# Altium integrated library Micron Memory Dynamic RAM.IntLib: 40 symbols (part 2 of 3)
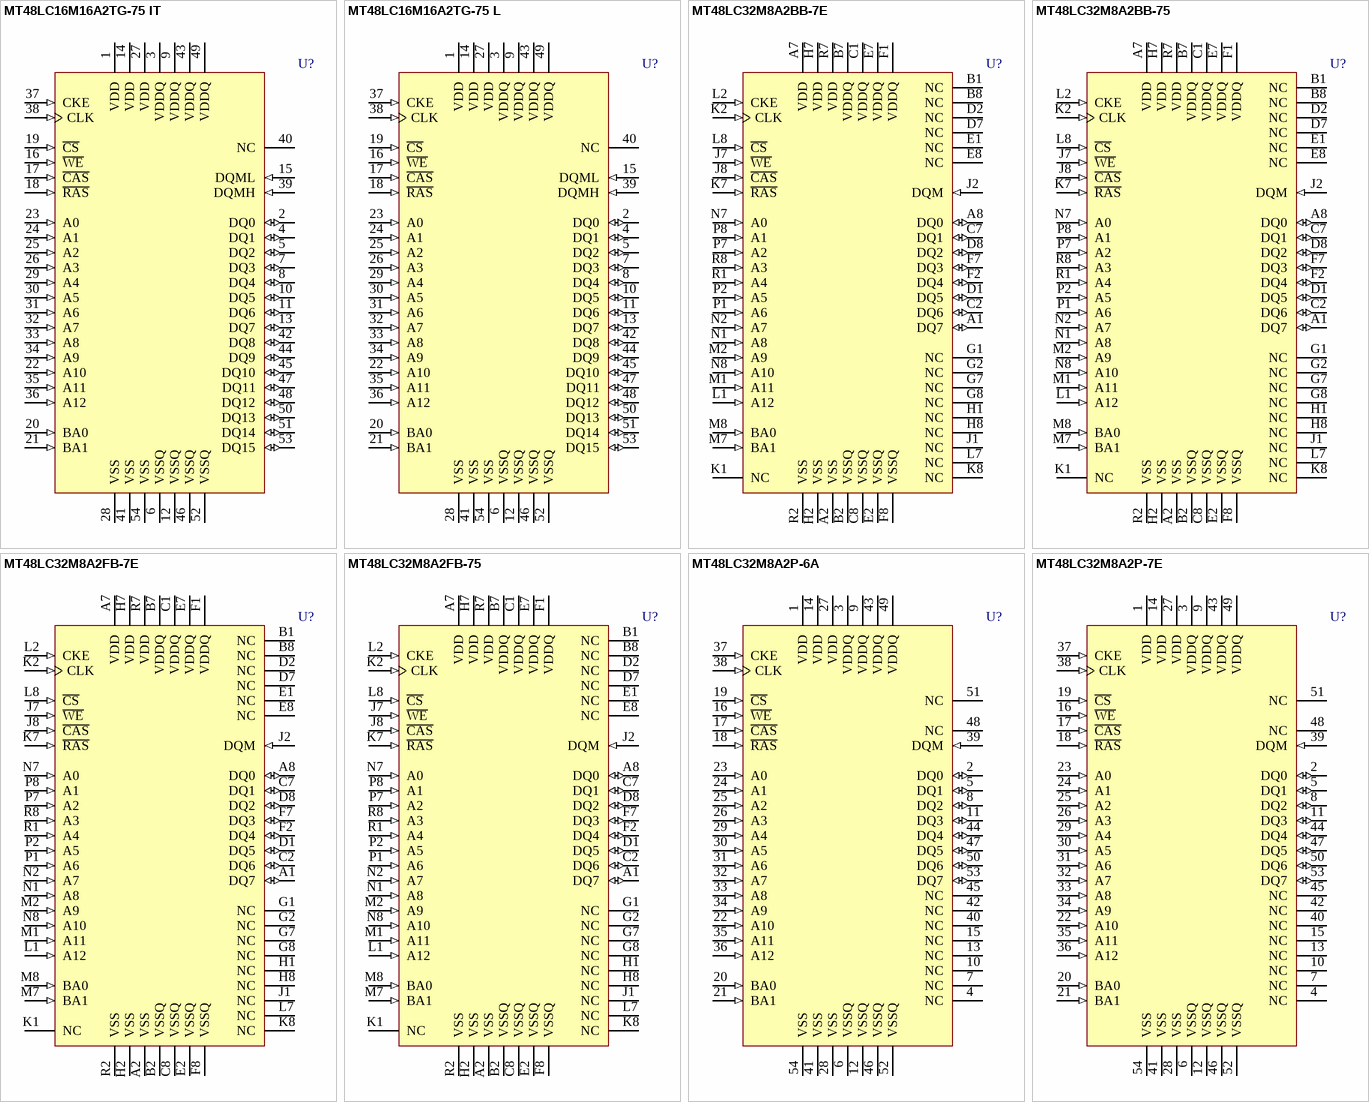
[diagram p5: symbols MT48LC16M16A2TG-75 IT to MT48LC32M8A2P-7E]

## MT48LC32M8A2BB-7E
designator U?
256Mb Synchronous High-Speed CMOS DRAM, 32Mb x 8Bit x 4 Banks,  60-Ball FPGA Pb-free, Commercial; CycleTime: 7.5ns @ CL = 2 (PC133); RowAddress: 8K (A0-A12); ColumnAddress: 1K (A0-A9); PCB_Layout: Manufacturer recommends pad size of 0.33mm ± 0.025mm.; Published: 11-Oct-2004; LatestRevisionDate: 13-Apr-2006; LatestRevisionNote: IPC-7351 Footprint Added.; DatasheetVersion: RevL, Oct-2007; PackageVersion: Sep-2003; PackageReference: FB; Publisher: Altium Limited; PackageDescription: 60-Ball Ball Grid Array Rectangular 0.8 mm Pitch (FB); ComponentLink1Description: Manufacturer Link; ComponentLink1URL: http://www.micron.com; ComponentLink2Description: Datasheet; ComponentLink2URL: http://download.micron.com/pdf/datasheets/dram/sdram/256MSDRAM.pdf
footprint FB (BGA, 60-Leads, Body 16x8mm, Pitch 0.8mm)
pins: A1 DQ7 (io) "Data Input/Output 7", A2 VSS (power) "Ground", A7 VDD (power) "Power Supply", A8 DQ0 (io) "Data Input/Output 0", B1 NC "No Connect", B2 VSSQ (power) "DQ Ground", B7 VDDQ (power) "DQ Power", B8 NC "No Connect", C1 VDDQ (power) "DQ Power", C2 DQ6 (io) "Data Input/Output 6", C7 DQ1 (io) "Data Input/Output 1", C8 VSSQ (power) "DQ Ground", D1 DQ5 (io) "Data Input/Output 5", D2 NC "No Connect", D7 NC "No Connect", D8 DQ2 (io) "Data Input/Output 2", E1 NC "No Connect", E2 VSSQ (power) "DQ Ground", E7 VDDQ (power) "DQ Power", E8 NC "No Connect", F1 VDDQ (power) "DQ Power", F2 DQ4 (io) "Data Input/Output 4", F7 DQ3 (io) "Data Input/Output 3", F8 VSSQ (power) "DQ Ground", G1 NC "No Connect", G2 NC "No Connect", G7 NC "No Connect", G8 NC "No Connect", H1 NC "No Connect", H2 VSS (power) "Ground", H7 VDD (power) "Power Supply", H8 NC "No Connect", J1 NC "No Connect", J2 DQM (in) "Input/Output Mask", J7 ~{WE} (in) "Command Input", J8 ~{CAS} (in) "Command Input", K1 NC "No Connect", K2 CLK (in) "Clock", K7 ~{RAS} (in) "Command Input", K8 NC "No Connect", L1 A12 (in) "Address Input 12", L2 CKE (in) "Clock Enable", L7 NC "No Connect", L8 ~{CS} (in) "Chip Select", M1 A11 (in) "Address Input 11", M2 A9 (in) "Address Input 9", M7 BA1 (in) "Bank Address Input 1", M8 BA0 (in) "Bank Address Input 0", N1 A8 (in) "Address Input 8", N2 A7 (in) "Address Input 7", N7 A0 (in) "Address Input 0", N8 A10 (in) "Address Input 10", P1 A6 (in) "Address Input 6", P2 A5 (in) "Address Input 5", P7 A2 (in) "Address Input 2", P8 A1 (in) "Address Input 1", R1 A4 (in) "Address Input 4", R2 VSS (power) "Ground", R7 VDD (power) "Power Supply", R8 A3 (in) "Address Input 3"

## MT48LC32M8A2BB-75
designator U?
256Mb Synchronous High-Speed CMOS DRAM, 32Mb x 8Bit x 4 Banks,  60-Ball FPGA Pb-free, Commercial; CycleTime: 7.5ns @ CL = 3 (PC133); RowAddress: 8K (A0-A12); ColumnAddress: 1K (A0-A9); PCB_Layout: Manufacturer recommends pad size of 0.33mm ± 0.025mm.; Published: 11-Oct-2004; LatestRevisionDate: 13-Apr-2006; LatestRevisionNote: IPC-7351 Footprint Added.; DatasheetVersion: RevL, Oct-2007; PackageVersion: Sep-2003; PackageReference: FB; Publisher: Altium Limited; PackageDescription: 60-Ball Ball Grid Array Rectangular 0.8 mm Pitch (FB); ComponentLink1Description: Manufacturer Link; ComponentLink1URL: http://www.micron.com; ComponentLink2Description: Datasheet; ComponentLink2URL: http://download.micron.com/pdf/datasheets/dram/sdram/256MSDRAM.pdf
footprint FB (BGA, 60-Leads, Body 16x8mm, Pitch 0.8mm)
pins: A1 DQ7 (io) "Data Input/Output 7", A2 VSS (power) "Ground", A7 VDD (power) "Power Supply", A8 DQ0 (io) "Data Input/Output 0", B1 NC "No Connect", B2 VSSQ (power) "DQ Ground", B7 VDDQ (power) "DQ Power", B8 NC "No Connect", C1 VDDQ (power) "DQ Power", C2 DQ6 (io) "Data Input/Output 6", C7 DQ1 (io) "Data Input/Output 1", C8 VSSQ (power) "DQ Ground", D1 DQ5 (io) "Data Input/Output 5", D2 NC "No Connect", D7 NC "No Connect", D8 DQ2 (io) "Data Input/Output 2", E1 NC "No Connect", E2 VSSQ (power) "DQ Ground", E7 VDDQ (power) "DQ Power", E8 NC "No Connect", F1 VDDQ (power) "DQ Power", F2 DQ4 (io) "Data Input/Output 4", F7 DQ3 (io) "Data Input/Output 3", F8 VSSQ (power) "DQ Ground", G1 NC "No Connect", G2 NC "No Connect", G7 NC "No Connect", G8 NC "No Connect", H1 NC "No Connect", H2 VSS (power) "Ground", H7 VDD (power) "Power Supply", H8 NC "No Connect", J1 NC "No Connect", J2 DQM (in) "Input/Output Mask", J7 ~{WE} (in) "Command Input", J8 ~{CAS} (in) "Command Input", K1 NC "No Connect", K2 CLK (in) "Clock", K7 ~{RAS} (in) "Command Input", K8 NC "No Connect", L1 A12 (in) "Address Input 12", L2 CKE (in) "Clock Enable", L7 NC "No Connect", L8 ~{CS} (in) "Chip Select", M1 A11 (in) "Address Input 11", M2 A9 (in) "Address Input 9", M7 BA1 (in) "Bank Address Input 1", M8 BA0 (in) "Bank Address Input 0", N1 A8 (in) "Address Input 8", N2 A7 (in) "Address Input 7", N7 A0 (in) "Address Input 0", N8 A10 (in) "Address Input 10", P1 A6 (in) "Address Input 6", P2 A5 (in) "Address Input 5", P7 A2 (in) "Address Input 2", P8 A1 (in) "Address Input 1", R1 A4 (in) "Address Input 4", R2 VSS (power) "Ground", R7 VDD (power) "Power Supply", R8 A3 (in) "Address Input 3"

## MT48LC32M8A2FB-7E
designator U?
256Mb Synchronous High-Speed CMOS DRAM, 32Mb x 8Bit x 4 Banks,  60-Ball FPGA, Commercial; CycleTime: 7.5ns @ CL = 2 (PC133); RowAddress: 8K (A0-A12); ColumnAddress: 1K (A0-A9); PCB_Layout: Manufacturer recommends pad size of 0.33mm ± 0.025mm.; Published: 30-Oct-2002; LatestRevisionDate: 13-Apr-2006; LatestRevisionNote: IPC-7351 Footprint Added.; DatasheetVersion: RevL, Oct-2007; PackageVersion: Sep-2003; PackageReference: FB; Publisher: Altium Limited; PackageDescription: 60-Ball Ball Grid Array Rectangular 0.8 mm Pitch (FB); ComponentLink1Description: Manufacturer Link; ComponentLink1URL: http://www.micron.com; ComponentLink2Description: Datasheet; ComponentLink2URL: http://download.micron.com/pdf/datasheets/dram/sdram/256MSDRAM.pdf
footprint FB (BGA, 60-Leads, Body 16x8mm, Pitch 0.8mm)
pins: A1 DQ7 (io) "Data Input/Output 7", A2 VSS (power) "Ground", A7 VDD (power) "Power Supply", A8 DQ0 (io) "Data Input/Output 0", B1 NC "No Connect", B2 VSSQ (power) "DQ Ground", B7 VDDQ (power) "DQ Power", B8 NC "No Connect", C1 VDDQ (power) "DQ Power", C2 DQ6 (io) "Data Input/Output 6", C7 DQ1 (io) "Data Input/Output 1", C8 VSSQ (power) "DQ Ground", D1 DQ5 (io) "Data Input/Output 5", D2 NC "No Connect", D7 NC "No Connect", D8 DQ2 (io) "Data Input/Output 2", E1 NC "No Connect", E2 VSSQ (power) "DQ Ground", E7 VDDQ (power) "DQ Power", E8 NC "No Connect", F1 VDDQ (power) "DQ Power", F2 DQ4 (io) "Data Input/Output 4", F7 DQ3 (io) "Data Input/Output 3", F8 VSSQ (power) "DQ Ground", G1 NC "No Connect", G2 NC "No Connect", G7 NC "No Connect", G8 NC "No Connect", H1 NC "No Connect", H2 VSS (power) "Ground", H7 VDD (power) "Power Supply", H8 NC "No Connect", J1 NC "No Connect", J2 DQM (in) "Input/Output Mask", J7 ~{WE} (in) "Command Input", J8 ~{CAS} (in) "Command Input", K1 NC "No Connect", K2 CLK (in) "Clock", K7 ~{RAS} (in) "Command Input", K8 NC "No Connect", L1 A12 (in) "Address Input 12", L2 CKE (in) "Clock Enable", L7 NC "No Connect", L8 ~{CS} (in) "Chip Select", M1 A11 (in) "Address Input 11", M2 A9 (in) "Address Input 9", M7 BA1 (in) "Bank Address Input 1", M8 BA0 (in) "Bank Address Input 0", N1 A8 (in) "Address Input 8", N2 A7 (in) "Address Input 7", N7 A0 (in) "Address Input 0", N8 A10 (in) "Address Input 10", P1 A6 (in) "Address Input 6", P2 A5 (in) "Address Input 5", P7 A2 (in) "Address Input 2", P8 A1 (in) "Address Input 1", R1 A4 (in) "Address Input 4", R2 VSS (power) "Ground", R7 VDD (power) "Power Supply", R8 A3 (in) "Address Input 3"

## MT48LC32M8A2FB-75
designator U?
256Mb Synchronous High-Speed CMOS DRAM, 32Mb x 8Bit x 4 Banks,  60-Ball FPGA, Commercial; CycleTime: 7.5ns @ CL = 3 (PC133); RowAddress: 8K (A0-A12); ColumnAddress: 1K (A0-A9); PCB_Layout: Manufacturer recommends pad size of 0.33mm ± 0.025mm.; Published: 30-Oct-2002; LatestRevisionDate: 13-Apr-2006; LatestRevisionNote: IPC-7351 Footprint Added.; DatasheetVersion: RevL, Oct-2007; PackageVersion: Sep-2003; PackageReference: FB; Publisher: Altium Limited; PackageDescription: 60-Ball Ball Grid Array Rectangular 0.8 mm Pitch (FB); ComponentLink1Description: Manufacturer Link; ComponentLink1URL: http://www.micron.com; ComponentLink2Description: Datasheet; ComponentLink2URL: http://download.micron.com/pdf/datasheets/dram/sdram/256MSDRAM.pdf
footprint FB (BGA, 60-Leads, Body 16x8mm, Pitch 0.8mm)
pins: A1 DQ7 (io) "Data Input/Output 7", A2 VSS (power) "Ground", A7 VDD (power) "Power Supply", A8 DQ0 (io) "Data Input/Output 0", B1 NC "No Connect", B2 VSSQ (power) "DQ Ground", B7 VDDQ (power) "DQ Power", B8 NC "No Connect", C1 VDDQ (power) "DQ Power", C2 DQ6 (io) "Data Input/Output 6", C7 DQ1 (io) "Data Input/Output 1", C8 VSSQ (power) "DQ Ground", D1 DQ5 (io) "Data Input/Output 5", D2 NC "No Connect", D7 NC "No Connect", D8 DQ2 (io) "Data Input/Output 2", E1 NC "No Connect", E2 VSSQ (power) "DQ Ground", E7 VDDQ (power) "DQ Power", E8 NC "No Connect", F1 VDDQ (power) "DQ Power", F2 DQ4 (io) "Data Input/Output 4", F7 DQ3 (io) "Data Input/Output 3", F8 VSSQ (power) "DQ Ground", G1 NC "No Connect", G2 NC "No Connect", G7 NC "No Connect", G8 NC "No Connect", H1 NC "No Connect", H2 VSS (power) "Ground", H7 VDD (power) "Power Supply", H8 NC "No Connect", J1 NC "No Connect", J2 DQM (in) "Input/Output Mask", J7 ~{WE} (in) "Command Input", J8 ~{CAS} (in) "Command Input", K1 NC "No Connect", K2 CLK (in) "Clock", K7 ~{RAS} (in) "Command Input", K8 NC "No Connect", L1 A12 (in) "Address Input 12", L2 CKE (in) "Clock Enable", L7 NC "No Connect", L8 ~{CS} (in) "Chip Select", M1 A11 (in) "Address Input 11", M2 A9 (in) "Address Input 9", M7 BA1 (in) "Bank Address Input 1", M8 BA0 (in) "Bank Address Input 0", N1 A8 (in) "Address Input 8", N2 A7 (in) "Address Input 7", N7 A0 (in) "Address Input 0", N8 A10 (in) "Address Input 10", P1 A6 (in) "Address Input 6", P2 A5 (in) "Address Input 5", P7 A2 (in) "Address Input 2", P8 A1 (in) "Address Input 1", R1 A4 (in) "Address Input 4", R2 VSS (power) "Ground", R7 VDD (power) "Power Supply", R8 A3 (in) "Address Input 3"

## MT48LC32M8A2P-6A
designator U?
256Mb Synchronous High-Speed CMOS DRAM, 32Mb x 8Bit x 4 Banks, 54-Pin TSOP Pb-free, Commercial; CycleTime: 6.0ns @ CL = 3; RowAddress: 8K (A0-A12); ColumnAddress: 1K (A0-A9); Published: 11-Oct-2004; LatestRevisionDate: 13-Apr-2006; LatestRevisionNote: IPC-7351 Footprint Added.; DatasheetVersion: RevL, Oct-2007; PackageVersion: Sep-2003; PackageReference: TSOP2-54; Publisher: Altium Limited; PackageDescription: 54-Pin Plastic Small Outline Package 0.8 mm Pitch; Code_JEDEC: MS-024-FA; ComponentLink1Description: Manufacturer Link; ComponentLink1URL: http://www.micron.com; ComponentLink2Description: Datasheet; ComponentLink2URL: http://download.micron.com/pdf/datasheets/dram/sdram/256MSDRAM.pdf
footprint TSOP2-54_N (SOP, 54-Leads, Body 22.2x10.16mm, Pitch 0.8mm, IPC Medium Density)
footprint TSOP2-54_L (SOP, 54-Leads, Body 22.2x10.16mm, Pitch 0.8mm, IPC High Density)
footprint TSOP2-54_M (SOP, 54-Leads, Body 22.2x10.16mm, Pitch 0.8mm, IPC Low Density)
pins: 1 VDD (power) "Power Supply", 2 DQ0 (io) "Data Input/Output 0", 3 VDDQ (power) "DQ Power", 4 NC "No Connect", 5 DQ1 (io) "Data Input/Output 1", 6 VSSQ (power) "DQ Ground", 7 NC "No Connect", 8 DQ2 (io) "Data Input/Output 2", 9 VDDQ (power) "DQ Power", 10 NC "No Connect", 11 DQ3 (io) "Data Input/Output 3", 12 VSSQ (power) "DQ Ground", 13 NC "No Connect", 14 VDD (power) "Power Supply", 15 NC "No Connect", 16 ~{WE} (in) "Command Input", 17 ~{CAS} (in) "Command Input", 18 ~{RAS} (in) "Command Input", 19 ~{CS} (in) "Chip Select", 20 BA0 (in) "Bank Address Input 0", 21 BA1 (in) "Bank Address Input 1", 22 A10 (in) "Address Input 10", 23 A0 (in) "Address Input 0", 24 A1 (in) "Address Input 1", 25 A2 (in) "Address Input 2", 26 A3 (in) "Address Input 3", 27 VDD (power) "Power Supply", 28 VSS (power) "Ground", 29 A4 (in) "Address Input 4", 30 A5 (in) "Address Input 5", 31 A6 (in) "Address Input 6", 32 A7 (in) "Address Input 7", 33 A8 (in) "Address Input 8", 34 A9 (in) "Address Input 9", 35 A11 (in) "Address Input 11", 36 A12 (in) "Address Input 12", 37 CKE (in) "Clock Enable", 38 CLK (in) "Clock", 39 DQM (in) "Input/Output Mask", 40 NC "No Connect", 41 VSS (power) "Ground", 42 NC "No Connect", 43 VDDQ (power) "DQ Power", 44 DQ4 (io) "Data Input/Output 4", 45 NC "No Connect", 46 VSSQ (power) "DQ Ground", 47 DQ5 (io) "Data Input/Output 5", 48 NC "No Connect", 49 VDDQ (power) "DQ Power", 50 DQ6 (io) "Data Input/Output 6", 51 NC "No Connect", 52 VSSQ (power) "DQ Ground", 53 DQ7 (io) "Data Input/Output 7", 54 VSS (power) "Ground"

## MT48LC32M8A2P-7E
designator U?
256Mb Synchronous High-Speed CMOS DRAM, 32Mb x 8Bit x 4 Banks, 54-Pin TSOP Pb-free, Commercial; CycleTime: 7.5ns @ CL = 2 (PC133); RowAddress: 8K (A0-A12); ColumnAddress: 1K (A0-A9); Published: 11-Oct-2004; LatestRevisionDate: 13-Apr-2006; LatestRevisionNote: IPC-7351 Footprint Added.; DatasheetVersion: RevL, Oct-2007; PackageVersion: Sep-2003; PackageReference: TSOP2-54; Publisher: Altium Limited; PackageDescription: 54-Pin Plastic Small Outline Package 0.8 mm Pitch; Code_JEDEC: MS-024-FA; ComponentLink1Description: Manufacturer Link; ComponentLink1URL: http://www.micron.com; ComponentLink2Description: Datasheet; ComponentLink2URL: http://download.micron.com/pdf/datasheets/dram/sdram/256MSDRAM.pdf
footprint TSOP2-54_N (SOP, 54-Leads, Body 22.2x10.16mm, Pitch 0.8mm, IPC Medium Density)
footprint TSOP2-54_L (SOP, 54-Leads, Body 22.2x10.16mm, Pitch 0.8mm, IPC High Density)
footprint TSOP2-54_M (SOP, 54-Leads, Body 22.2x10.16mm, Pitch 0.8mm, IPC Low Density)
pins: 1 VDD (power) "Power Supply", 2 DQ0 (io) "Data Input/Output 0", 3 VDDQ (power) "DQ Power", 4 NC "No Connect", 5 DQ1 (io) "Data Input/Output 1", 6 VSSQ (power) "DQ Ground", 7 NC "No Connect", 8 DQ2 (io) "Data Input/Output 2", 9 VDDQ (power) "DQ Power", 10 NC "No Connect", 11 DQ3 (io) "Data Input/Output 3", 12 VSSQ (power) "DQ Ground", 13 NC "No Connect", 14 VDD (power) "Power Supply", 15 NC "No Connect", 16 ~{WE} (in) "Command Input", 17 ~{CAS} (in) "Command Input", 18 ~{RAS} (in) "Command Input", 19 ~{CS} (in) "Chip Select", 20 BA0 (in) "Bank Address Input 0", 21 BA1 (in) "Bank Address Input 1", 22 A10 (in) "Address Input 10", 23 A0 (in) "Address Input 0", 24 A1 (in) "Address Input 1", 25 A2 (in) "Address Input 2", 26 A3 (in) "Address Input 3", 27 VDD (power) "Power Supply", 28 VSS (power) "Ground", 29 A4 (in) "Address Input 4", 30 A5 (in) "Address Input 5", 31 A6 (in) "Address Input 6", 32 A7 (in) "Address Input 7", 33 A8 (in) "Address Input 8", 34 A9 (in) "Address Input 9", 35 A11 (in) "Address Input 11", 36 A12 (in) "Address Input 12", 37 CKE (in) "Clock Enable", 38 CLK (in) "Clock", 39 DQM (in) "Input/Output Mask", 40 NC "No Connect", 41 VSS (power) "Ground", 42 NC "No Connect", 43 VDDQ (power) "DQ Power", 44 DQ4 (io) "Data Input/Output 4", 45 NC "No Connect", 46 VSSQ (power) "DQ Ground", 47 DQ5 (io) "Data Input/Output 5", 48 NC "No Connect", 49 VDDQ (power) "DQ Power", 50 DQ6 (io) "Data Input/Output 6", 51 NC "No Connect", 52 VSSQ (power) "DQ Ground", 53 DQ7 (io) "Data Input/Output 7", 54 VSS (power) "Ground"

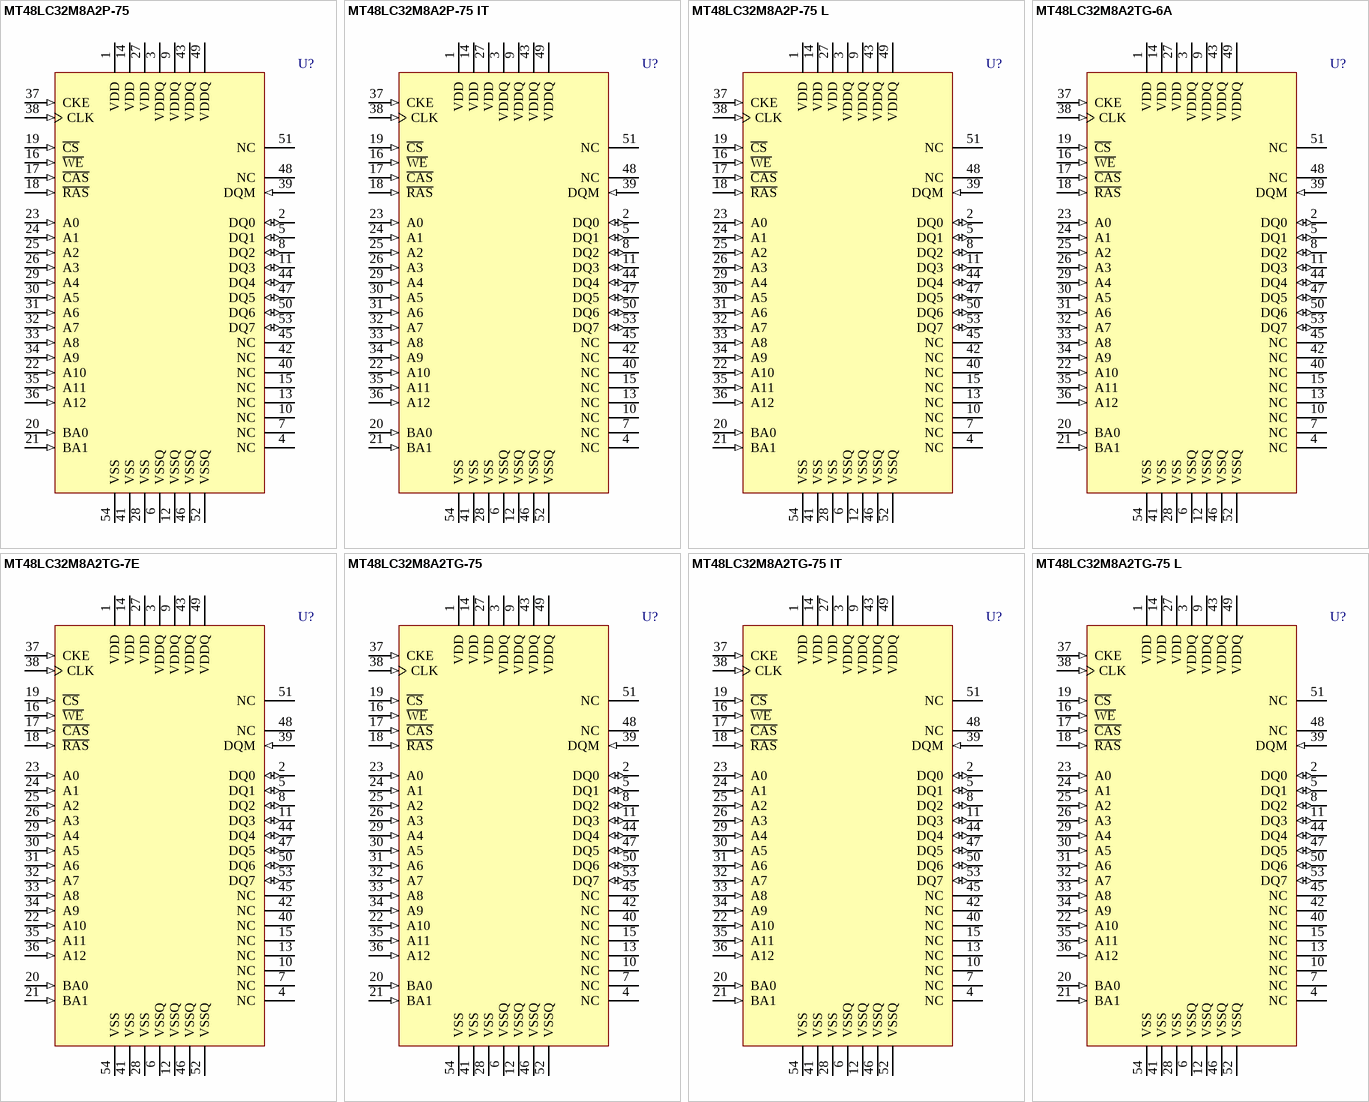
[diagram p3: symbols MT48LC32M8A2P-75 to MT48LC32M8A2TG-75 L]

## MT48LC32M8A2P-75
designator U?
256Mb Synchronous High-Speed CMOS DRAM, 32Mb x 8Bit x 4 Banks, 54-Pin TSOP Pb-free, Commercial; CycleTime: 7.5ns @ CL = 3 (PC133); RowAddress: 8K (A0-A12); ColumnAddress: 1K (A0-A9); Published: 11-Oct-2004; LatestRevisionDate: 13-Apr-2006; LatestRevisionNote: IPC-7351 Footprint Added.; DatasheetVersion: RevL, Oct-2007; PackageVersion: Sep-2003; PackageReference: TSOP2-54; Publisher: Altium Limited; PackageDescription: 54-Pin Plastic Small Outline Package 0.8 mm Pitch; Code_JEDEC: MS-024-FA; ComponentLink1Description: Manufacturer Link; ComponentLink1URL: http://www.micron.com; ComponentLink2Description: Datasheet; ComponentLink2URL: http://download.micron.com/pdf/datasheets/dram/sdram/256MSDRAM.pdf
footprint TSOP2-54_N (SOP, 54-Leads, Body 22.2x10.16mm, Pitch 0.8mm, IPC Medium Density)
footprint TSOP2-54_L (SOP, 54-Leads, Body 22.2x10.16mm, Pitch 0.8mm, IPC High Density)
footprint TSOP2-54_M (SOP, 54-Leads, Body 22.2x10.16mm, Pitch 0.8mm, IPC Low Density)
pins: 1 VDD (power) "Power Supply", 2 DQ0 (io) "Data Input/Output 0", 3 VDDQ (power) "DQ Power", 4 NC "No Connect", 5 DQ1 (io) "Data Input/Output 1", 6 VSSQ (power) "DQ Ground", 7 NC "No Connect", 8 DQ2 (io) "Data Input/Output 2", 9 VDDQ (power) "DQ Power", 10 NC "No Connect", 11 DQ3 (io) "Data Input/Output 3", 12 VSSQ (power) "DQ Ground", 13 NC "No Connect", 14 VDD (power) "Power Supply", 15 NC "No Connect", 16 ~{WE} (in) "Command Input", 17 ~{CAS} (in) "Command Input", 18 ~{RAS} (in) "Command Input", 19 ~{CS} (in) "Chip Select", 20 BA0 (in) "Bank Address Input 0", 21 BA1 (in) "Bank Address Input 1", 22 A10 (in) "Address Input 10", 23 A0 (in) "Address Input 0", 24 A1 (in) "Address Input 1", 25 A2 (in) "Address Input 2", 26 A3 (in) "Address Input 3", 27 VDD (power) "Power Supply", 28 VSS (power) "Ground", 29 A4 (in) "Address Input 4", 30 A5 (in) "Address Input 5", 31 A6 (in) "Address Input 6", 32 A7 (in) "Address Input 7", 33 A8 (in) "Address Input 8", 34 A9 (in) "Address Input 9", 35 A11 (in) "Address Input 11", 36 A12 (in) "Address Input 12", 37 CKE (in) "Clock Enable", 38 CLK (in) "Clock", 39 DQM (in) "Input/Output Mask", 40 NC "No Connect", 41 VSS (power) "Ground", 42 NC "No Connect", 43 VDDQ (power) "DQ Power", 44 DQ4 (io) "Data Input/Output 4", 45 NC "No Connect", 46 VSSQ (power) "DQ Ground", 47 DQ5 (io) "Data Input/Output 5", 48 NC "No Connect", 49 VDDQ (power) "DQ Power", 50 DQ6 (io) "Data Input/Output 6", 51 NC "No Connect", 52 VSSQ (power) "DQ Ground", 53 DQ7 (io) "Data Input/Output 7", 54 VSS (power) "Ground"

## MT48LC32M8A2P-75 IT
designator U?
256Mb Synchronous High-Speed CMOS DRAM, 32Mb x 8Bit x 4 Banks, 54-Pin TSOP Pb-free, Industrial; CycleTime: 7.5ns @ CL = 3 (PC133); RowAddress: 8K (A0-A12); ColumnAddress: 1K (A0-A9); Published: 11-Oct-2004; LatestRevisionDate: 13-Apr-2006; LatestRevisionNote: IPC-7351 Footprint Added.; DatasheetVersion: RevL, Oct-2007; PackageVersion: Sep-2003; PackageReference: TSOP2-54; Publisher: Altium Limited; PackageDescription: 54-Pin Plastic Small Outline Package 0.8 mm Pitch; Code_JEDEC: MS-024-FA; ComponentLink1Description: Manufacturer Link; ComponentLink1URL: http://www.micron.com; ComponentLink2Description: Datasheet; ComponentLink2URL: http://download.micron.com/pdf/datasheets/dram/sdram/256MSDRAM.pdf
footprint TSOP2-54_N (SOP, 54-Leads, Body 22.2x10.16mm, Pitch 0.8mm, IPC Medium Density)
footprint TSOP2-54_L (SOP, 54-Leads, Body 22.2x10.16mm, Pitch 0.8mm, IPC High Density)
footprint TSOP2-54_M (SOP, 54-Leads, Body 22.2x10.16mm, Pitch 0.8mm, IPC Low Density)
pins: 1 VDD (power) "Power Supply", 2 DQ0 (io) "Data Input/Output 0", 3 VDDQ (power) "DQ Power", 4 NC "No Connect", 5 DQ1 (io) "Data Input/Output 1", 6 VSSQ (power) "DQ Ground", 7 NC "No Connect", 8 DQ2 (io) "Data Input/Output 2", 9 VDDQ (power) "DQ Power", 10 NC "No Connect", 11 DQ3 (io) "Data Input/Output 3", 12 VSSQ (power) "DQ Ground", 13 NC "No Connect", 14 VDD (power) "Power Supply", 15 NC "No Connect", 16 ~{WE} (in) "Command Input", 17 ~{CAS} (in) "Command Input", 18 ~{RAS} (in) "Command Input", 19 ~{CS} (in) "Chip Select", 20 BA0 (in) "Bank Address Input 0", 21 BA1 (in) "Bank Address Input 1", 22 A10 (in) "Address Input 10", 23 A0 (in) "Address Input 0", 24 A1 (in) "Address Input 1", 25 A2 (in) "Address Input 2", 26 A3 (in) "Address Input 3", 27 VDD (power) "Power Supply", 28 VSS (power) "Ground", 29 A4 (in) "Address Input 4", 30 A5 (in) "Address Input 5", 31 A6 (in) "Address Input 6", 32 A7 (in) "Address Input 7", 33 A8 (in) "Address Input 8", 34 A9 (in) "Address Input 9", 35 A11 (in) "Address Input 11", 36 A12 (in) "Address Input 12", 37 CKE (in) "Clock Enable", 38 CLK (in) "Clock", 39 DQM (in) "Input/Output Mask", 40 NC "No Connect", 41 VSS (power) "Ground", 42 NC "No Connect", 43 VDDQ (power) "DQ Power", 44 DQ4 (io) "Data Input/Output 4", 45 NC "No Connect", 46 VSSQ (power) "DQ Ground", 47 DQ5 (io) "Data Input/Output 5", 48 NC "No Connect", 49 VDDQ (power) "DQ Power", 50 DQ6 (io) "Data Input/Output 6", 51 NC "No Connect", 52 VSSQ (power) "DQ Ground", 53 DQ7 (io) "Data Input/Output 7", 54 VSS (power) "Ground"

## MT48LC32M8A2P-75 L
designator U?
256Mb Synchronous High-Speed CMOS DRAM, 32Mb x 8Bit x 4 Banks, 54-Pin TSOP Pb-free, Commercial, Low Power; CycleTime: 7.5ns @ CL = 3 (PC133); RowAddress: 8K (A0-A12); ColumnAddress: 1K (A0-A9); Published: 11-Oct-2004; LatestRevisionDate: 13-Apr-2006; LatestRevisionNote: IPC-7351 Footprint Added.; DatasheetVersion: RevL, Oct-2007; PackageVersion: Sep-2003; PackageReference: TSOP2-54; Publisher: Altium Limited; PackageDescription: 54-Pin Plastic Small Outline Package 0.8 mm Pitch; Code_JEDEC: MS-024-FA; ComponentLink1Description: Manufacturer Link; ComponentLink1URL: http://www.micron.com; ComponentLink2Description: Datasheet; ComponentLink2URL: http://download.micron.com/pdf/datasheets/dram/sdram/256MSDRAM.pdf
footprint TSOP2-54_N (SOP, 54-Leads, Body 22.2x10.16mm, Pitch 0.8mm, IPC Medium Density)
footprint TSOP2-54_L (SOP, 54-Leads, Body 22.2x10.16mm, Pitch 0.8mm, IPC High Density)
footprint TSOP2-54_M (SOP, 54-Leads, Body 22.2x10.16mm, Pitch 0.8mm, IPC Low Density)
pins: 1 VDD (power) "Power Supply", 2 DQ0 (io) "Data Input/Output 0", 3 VDDQ (power) "DQ Power", 4 NC "No Connect", 5 DQ1 (io) "Data Input/Output 1", 6 VSSQ (power) "DQ Ground", 7 NC "No Connect", 8 DQ2 (io) "Data Input/Output 2", 9 VDDQ (power) "DQ Power", 10 NC "No Connect", 11 DQ3 (io) "Data Input/Output 3", 12 VSSQ (power) "DQ Ground", 13 NC "No Connect", 14 VDD (power) "Power Supply", 15 NC "No Connect", 16 ~{WE} (in) "Command Input", 17 ~{CAS} (in) "Command Input", 18 ~{RAS} (in) "Command Input", 19 ~{CS} (in) "Chip Select", 20 BA0 (in) "Bank Address Input 0", 21 BA1 (in) "Bank Address Input 1", 22 A10 (in) "Address Input 10", 23 A0 (in) "Address Input 0", 24 A1 (in) "Address Input 1", 25 A2 (in) "Address Input 2", 26 A3 (in) "Address Input 3", 27 VDD (power) "Power Supply", 28 VSS (power) "Ground", 29 A4 (in) "Address Input 4", 30 A5 (in) "Address Input 5", 31 A6 (in) "Address Input 6", 32 A7 (in) "Address Input 7", 33 A8 (in) "Address Input 8", 34 A9 (in) "Address Input 9", 35 A11 (in) "Address Input 11", 36 A12 (in) "Address Input 12", 37 CKE (in) "Clock Enable", 38 CLK (in) "Clock", 39 DQM (in) "Input/Output Mask", 40 NC "No Connect", 41 VSS (power) "Ground", 42 NC "No Connect", 43 VDDQ (power) "DQ Power", 44 DQ4 (io) "Data Input/Output 4", 45 NC "No Connect", 46 VSSQ (power) "DQ Ground", 47 DQ5 (io) "Data Input/Output 5", 48 NC "No Connect", 49 VDDQ (power) "DQ Power", 50 DQ6 (io) "Data Input/Output 6", 51 NC "No Connect", 52 VSSQ (power) "DQ Ground", 53 DQ7 (io) "Data Input/Output 7", 54 VSS (power) "Ground"

## MT48LC32M8A2TG-6A
designator U?
256Mb Synchronous High-Speed CMOS DRAM, 32Mb x 8Bit x 4 Banks, 54-Pin TSOP, Commercial; CycleTime: 6.0ns @ CL = 3; RowAddress: 8K (A0-A12); ColumnAddress: 1K (A0-A9); Published: 30-Oct-2002; LatestRevisionDate: 13-Apr-2006; LatestRevisionNote: IPC-7351 Footprint Added.; DatasheetVersion: RevL, Oct-2007; PackageVersion: Sep-2003; PackageReference: TSOP2-54; Publisher: Altium Limited; PackageDescription: 54-Pin Plastic Small Outline Package 0.8 mm Pitch; Code_JEDEC: MS-024-FA; ComponentLink1Description: Manufacturer Link; ComponentLink1URL: http://www.micron.com; ComponentLink2Description: Datasheet; ComponentLink2URL: http://download.micron.com/pdf/datasheets/dram/sdram/256MSDRAM.pdf
footprint TSOP2-54_N (SOP, 54-Leads, Body 22.2x10.16mm, Pitch 0.8mm, IPC Medium Density)
footprint TSOP2-54_L (SOP, 54-Leads, Body 22.2x10.16mm, Pitch 0.8mm, IPC High Density)
footprint TSOP2-54_M (SOP, 54-Leads, Body 22.2x10.16mm, Pitch 0.8mm, IPC Low Density)
pins: 1 VDD (power) "Power Supply", 2 DQ0 (io) "Data Input/Output 0", 3 VDDQ (power) "DQ Power", 4 NC "No Connect", 5 DQ1 (io) "Data Input/Output 1", 6 VSSQ (power) "DQ Ground", 7 NC "No Connect", 8 DQ2 (io) "Data Input/Output 2", 9 VDDQ (power) "DQ Power", 10 NC "No Connect", 11 DQ3 (io) "Data Input/Output 3", 12 VSSQ (power) "DQ Ground", 13 NC "No Connect", 14 VDD (power) "Power Supply", 15 NC "No Connect", 16 ~{WE} (in) "Command Input", 17 ~{CAS} (in) "Command Input", 18 ~{RAS} (in) "Command Input", 19 ~{CS} (in) "Chip Select", 20 BA0 (in) "Bank Address Input 0", 21 BA1 (in) "Bank Address Input 1", 22 A10 (in) "Address Input 10", 23 A0 (in) "Address Input 0", 24 A1 (in) "Address Input 1", 25 A2 (in) "Address Input 2", 26 A3 (in) "Address Input 3", 27 VDD (power) "Power Supply", 28 VSS (power) "Ground", 29 A4 (in) "Address Input 4", 30 A5 (in) "Address Input 5", 31 A6 (in) "Address Input 6", 32 A7 (in) "Address Input 7", 33 A8 (in) "Address Input 8", 34 A9 (in) "Address Input 9", 35 A11 (in) "Address Input 11", 36 A12 (in) "Address Input 12", 37 CKE (in) "Clock Enable", 38 CLK (in) "Clock", 39 DQM (in) "Input/Output Mask", 40 NC "No Connect", 41 VSS (power) "Ground", 42 NC "No Connect", 43 VDDQ (power) "DQ Power", 44 DQ4 (io) "Data Input/Output 4", 45 NC "No Connect", 46 VSSQ (power) "DQ Ground", 47 DQ5 (io) "Data Input/Output 5", 48 NC "No Connect", 49 VDDQ (power) "DQ Power", 50 DQ6 (io) "Data Input/Output 6", 51 NC "No Connect", 52 VSSQ (power) "DQ Ground", 53 DQ7 (io) "Data Input/Output 7", 54 VSS (power) "Ground"

## MT48LC32M8A2TG-7E
designator U?
256Mb Synchronous High-Speed CMOS DRAM, 32Mb x 8Bit x 4 Banks, 54-Pin TSOP, Commercial; CycleTime: 7.5ns @ CL = 2 (PC133); RowAddress: 8K (A0-A12); ColumnAddress: 1K (A0-A9); Published: 30-Oct-2002; LatestRevisionDate: 13-Apr-2006; LatestRevisionNote: IPC-7351 Footprint Added.; DatasheetVersion: RevL, Oct-2007; PackageVersion: Sep-2003; PackageReference: TSOP2-54; Publisher: Altium Limited; PackageDescription: 54-Pin Plastic Small Outline Package 0.8 mm Pitch; Code_JEDEC: MS-024-FA; ComponentLink1Description: Manufacturer Link; ComponentLink1URL: http://www.micron.com; ComponentLink2Description: Datasheet; ComponentLink2URL: http://download.micron.com/pdf/datasheets/dram/sdram/256MSDRAM.pdf
footprint TSOP2-54_N (SOP, 54-Leads, Body 22.2x10.16mm, Pitch 0.8mm, IPC Medium Density)
footprint TSOP2-54_L (SOP, 54-Leads, Body 22.2x10.16mm, Pitch 0.8mm, IPC High Density)
footprint TSOP2-54_M (SOP, 54-Leads, Body 22.2x10.16mm, Pitch 0.8mm, IPC Low Density)
pins: 1 VDD (power) "Power Supply", 2 DQ0 (io) "Data Input/Output 0", 3 VDDQ (power) "DQ Power", 4 NC "No Connect", 5 DQ1 (io) "Data Input/Output 1", 6 VSSQ (power) "DQ Ground", 7 NC "No Connect", 8 DQ2 (io) "Data Input/Output 2", 9 VDDQ (power) "DQ Power", 10 NC "No Connect", 11 DQ3 (io) "Data Input/Output 3", 12 VSSQ (power) "DQ Ground", 13 NC "No Connect", 14 VDD (power) "Power Supply", 15 NC "No Connect", 16 ~{WE} (in) "Command Input", 17 ~{CAS} (in) "Command Input", 18 ~{RAS} (in) "Command Input", 19 ~{CS} (in) "Chip Select", 20 BA0 (in) "Bank Address Input 0", 21 BA1 (in) "Bank Address Input 1", 22 A10 (in) "Address Input 10", 23 A0 (in) "Address Input 0", 24 A1 (in) "Address Input 1", 25 A2 (in) "Address Input 2", 26 A3 (in) "Address Input 3", 27 VDD (power) "Power Supply", 28 VSS (power) "Ground", 29 A4 (in) "Address Input 4", 30 A5 (in) "Address Input 5", 31 A6 (in) "Address Input 6", 32 A7 (in) "Address Input 7", 33 A8 (in) "Address Input 8", 34 A9 (in) "Address Input 9", 35 A11 (in) "Address Input 11", 36 A12 (in) "Address Input 12", 37 CKE (in) "Clock Enable", 38 CLK (in) "Clock", 39 DQM (in) "Input/Output Mask", 40 NC "No Connect", 41 VSS (power) "Ground", 42 NC "No Connect", 43 VDDQ (power) "DQ Power", 44 DQ4 (io) "Data Input/Output 4", 45 NC "No Connect", 46 VSSQ (power) "DQ Ground", 47 DQ5 (io) "Data Input/Output 5", 48 NC "No Connect", 49 VDDQ (power) "DQ Power", 50 DQ6 (io) "Data Input/Output 6", 51 NC "No Connect", 52 VSSQ (power) "DQ Ground", 53 DQ7 (io) "Data Input/Output 7", 54 VSS (power) "Ground"

## MT48LC32M8A2TG-75
designator U?
256Mb Synchronous High-Speed CMOS DRAM, 32Mb x 8Bit x 4 Banks, 54-Pin TSOP, Commercial; CycleTime: 7.5ns @ CL = 3 (PC133); RowAddress: 8K (A0-A12); ColumnAddress: 1K (A0-A9); Published: 30-Oct-2002; LatestRevisionDate: 13-Apr-2006; LatestRevisionNote: IPC-7351 Footprint Added.; DatasheetVersion: RevL, Oct-2007; PackageVersion: Sep-2003; PackageReference: TSOP2-54; Publisher: Altium Limited; PackageDescription: 54-Pin Plastic Small Outline Package 0.8 mm Pitch; Code_JEDEC: MS-024-FA; ComponentLink1Description: Manufacturer Link; ComponentLink1URL: http://www.micron.com; ComponentLink2Description: Datasheet; ComponentLink2URL: http://download.micron.com/pdf/datasheets/dram/sdram/256MSDRAM.pdf
footprint TSOP2-54_N (SOP, 54-Leads, Body 22.2x10.16mm, Pitch 0.8mm, IPC Medium Density)
footprint TSOP2-54_L (SOP, 54-Leads, Body 22.2x10.16mm, Pitch 0.8mm, IPC High Density)
footprint TSOP2-54_M (SOP, 54-Leads, Body 22.2x10.16mm, Pitch 0.8mm, IPC Low Density)
pins: 1 VDD (power) "Power Supply", 2 DQ0 (io) "Data Input/Output 0", 3 VDDQ (power) "DQ Power", 4 NC "No Connect", 5 DQ1 (io) "Data Input/Output 1", 6 VSSQ (power) "DQ Ground", 7 NC "No Connect", 8 DQ2 (io) "Data Input/Output 2", 9 VDDQ (power) "DQ Power", 10 NC "No Connect", 11 DQ3 (io) "Data Input/Output 3", 12 VSSQ (power) "DQ Ground", 13 NC "No Connect", 14 VDD (power) "Power Supply", 15 NC "No Connect", 16 ~{WE} (in) "Command Input", 17 ~{CAS} (in) "Command Input", 18 ~{RAS} (in) "Command Input", 19 ~{CS} (in) "Chip Select", 20 BA0 (in) "Bank Address Input 0", 21 BA1 (in) "Bank Address Input 1", 22 A10 (in) "Address Input 10", 23 A0 (in) "Address Input 0", 24 A1 (in) "Address Input 1", 25 A2 (in) "Address Input 2", 26 A3 (in) "Address Input 3", 27 VDD (power) "Power Supply", 28 VSS (power) "Ground", 29 A4 (in) "Address Input 4", 30 A5 (in) "Address Input 5", 31 A6 (in) "Address Input 6", 32 A7 (in) "Address Input 7", 33 A8 (in) "Address Input 8", 34 A9 (in) "Address Input 9", 35 A11 (in) "Address Input 11", 36 A12 (in) "Address Input 12", 37 CKE (in) "Clock Enable", 38 CLK (in) "Clock", 39 DQM (in) "Input/Output Mask", 40 NC "No Connect", 41 VSS (power) "Ground", 42 NC "No Connect", 43 VDDQ (power) "DQ Power", 44 DQ4 (io) "Data Input/Output 4", 45 NC "No Connect", 46 VSSQ (power) "DQ Ground", 47 DQ5 (io) "Data Input/Output 5", 48 NC "No Connect", 49 VDDQ (power) "DQ Power", 50 DQ6 (io) "Data Input/Output 6", 51 NC "No Connect", 52 VSSQ (power) "DQ Ground", 53 DQ7 (io) "Data Input/Output 7", 54 VSS (power) "Ground"

## MT48LC32M8A2TG-75 IT
designator U?
256Mb Synchronous High-Speed CMOS DRAM, 32Mb x 8Bit x 4 Banks, 54-Pin TSOP, Industrial; CycleTime: 7.5ns @ CL = 3 (PC133); RowAddress: 8K (A0-A12); ColumnAddress: 1K (A0-A9); Published: 30-Oct-2002; LatestRevisionDate: 13-Apr-2006; LatestRevisionNote: IPC-7351 Footprint Added.; DatasheetVersion: RevL, Oct-2007; PackageVersion: Sep-2003; PackageReference: TSOP2-54; Publisher: Altium Limited; PackageDescription: 54-Pin Plastic Small Outline Package 0.8 mm Pitch; Code_JEDEC: MS-024-FA; ComponentLink1Description: Manufacturer Link; ComponentLink1URL: http://www.micron.com; ComponentLink2Description: Datasheet; ComponentLink2URL: http://download.micron.com/pdf/datasheets/dram/sdram/256MSDRAM.pdf
footprint TSOP2-54_N (SOP, 54-Leads, Body 22.2x10.16mm, Pitch 0.8mm, IPC Medium Density)
footprint TSOP2-54_L (SOP, 54-Leads, Body 22.2x10.16mm, Pitch 0.8mm, IPC High Density)
footprint TSOP2-54_M (SOP, 54-Leads, Body 22.2x10.16mm, Pitch 0.8mm, IPC Low Density)
pins: 1 VDD (power) "Power Supply", 2 DQ0 (io) "Data Input/Output 0", 3 VDDQ (power) "DQ Power", 4 NC "No Connect", 5 DQ1 (io) "Data Input/Output 1", 6 VSSQ (power) "DQ Ground", 7 NC "No Connect", 8 DQ2 (io) "Data Input/Output 2", 9 VDDQ (power) "DQ Power", 10 NC "No Connect", 11 DQ3 (io) "Data Input/Output 3", 12 VSSQ (power) "DQ Ground", 13 NC "No Connect", 14 VDD (power) "Power Supply", 15 NC "No Connect", 16 ~{WE} (in) "Command Input", 17 ~{CAS} (in) "Command Input", 18 ~{RAS} (in) "Command Input", 19 ~{CS} (in) "Chip Select", 20 BA0 (in) "Bank Address Input 0", 21 BA1 (in) "Bank Address Input 1", 22 A10 (in) "Address Input 10", 23 A0 (in) "Address Input 0", 24 A1 (in) "Address Input 1", 25 A2 (in) "Address Input 2", 26 A3 (in) "Address Input 3", 27 VDD (power) "Power Supply", 28 VSS (power) "Ground", 29 A4 (in) "Address Input 4", 30 A5 (in) "Address Input 5", 31 A6 (in) "Address Input 6", 32 A7 (in) "Address Input 7", 33 A8 (in) "Address Input 8", 34 A9 (in) "Address Input 9", 35 A11 (in) "Address Input 11", 36 A12 (in) "Address Input 12", 37 CKE (in) "Clock Enable", 38 CLK (in) "Clock", 39 DQM (in) "Input/Output Mask", 40 NC "No Connect", 41 VSS (power) "Ground", 42 NC "No Connect", 43 VDDQ (power) "DQ Power", 44 DQ4 (io) "Data Input/Output 4", 45 NC "No Connect", 46 VSSQ (power) "DQ Ground", 47 DQ5 (io) "Data Input/Output 5", 48 NC "No Connect", 49 VDDQ (power) "DQ Power", 50 DQ6 (io) "Data Input/Output 6", 51 NC "No Connect", 52 VSSQ (power) "DQ Ground", 53 DQ7 (io) "Data Input/Output 7", 54 VSS (power) "Ground"

## MT48LC32M8A2TG-75 L
designator U?
256Mb Synchronous High-Speed CMOS DRAM, 32Mb x 8Bit x 4 Banks, 54-Pin TSOP, Commercial, Low Power; CycleTime: 7.5ns @ CL = 3 (PC133); RowAddress: 8K (A0-A12); ColumnAddress: 1K (A0-A9); Published: 30-Oct-2002; LatestRevisionDate: 13-Apr-2006; LatestRevisionNote: IPC-7351 Footprint Added.; DatasheetVersion: RevL, Oct-2007; PackageVersion: Sep-2003; PackageReference: TSOP2-54; Publisher: Altium Limited; PackageDescription: 54-Pin Plastic Small Outline Package 0.8 mm Pitch; Code_JEDEC: MS-024-FA; ComponentLink1Description: Manufacturer Link; ComponentLink1URL: http://www.micron.com; ComponentLink2Description: Datasheet; ComponentLink2URL: http://download.micron.com/pdf/datasheets/dram/sdram/256MSDRAM.pdf
footprint TSOP2-54_N (SOP, 54-Leads, Body 22.2x10.16mm, Pitch 0.8mm, IPC Medium Density)
footprint TSOP2-54_L (SOP, 54-Leads, Body 22.2x10.16mm, Pitch 0.8mm, IPC High Density)
footprint TSOP2-54_M (SOP, 54-Leads, Body 22.2x10.16mm, Pitch 0.8mm, IPC Low Density)
pins: 1 VDD (power) "Power Supply", 2 DQ0 (io) "Data Input/Output 0", 3 VDDQ (power) "DQ Power", 4 NC "No Connect", 5 DQ1 (io) "Data Input/Output 1", 6 VSSQ (power) "DQ Ground", 7 NC "No Connect", 8 DQ2 (io) "Data Input/Output 2", 9 VDDQ (power) "DQ Power", 10 NC "No Connect", 11 DQ3 (io) "Data Input/Output 3", 12 VSSQ (power) "DQ Ground", 13 NC "No Connect", 14 VDD (power) "Power Supply", 15 NC "No Connect", 16 ~{WE} (in) "Command Input", 17 ~{CAS} (in) "Command Input", 18 ~{RAS} (in) "Command Input", 19 ~{CS} (in) "Chip Select", 20 BA0 (in) "Bank Address Input 0", 21 BA1 (in) "Bank Address Input 1", 22 A10 (in) "Address Input 10", 23 A0 (in) "Address Input 0", 24 A1 (in) "Address Input 1", 25 A2 (in) "Address Input 2", 26 A3 (in) "Address Input 3", 27 VDD (power) "Power Supply", 28 VSS (power) "Ground", 29 A4 (in) "Address Input 4", 30 A5 (in) "Address Input 5", 31 A6 (in) "Address Input 6", 32 A7 (in) "Address Input 7", 33 A8 (in) "Address Input 8", 34 A9 (in) "Address Input 9", 35 A11 (in) "Address Input 11", 36 A12 (in) "Address Input 12", 37 CKE (in) "Clock Enable", 38 CLK (in) "Clock", 39 DQM (in) "Input/Output Mask", 40 NC "No Connect", 41 VSS (power) "Ground", 42 NC "No Connect", 43 VDDQ (power) "DQ Power", 44 DQ4 (io) "Data Input/Output 4", 45 NC "No Connect", 46 VSSQ (power) "DQ Ground", 47 DQ5 (io) "Data Input/Output 5", 48 NC "No Connect", 49 VDDQ (power) "DQ Power", 50 DQ6 (io) "Data Input/Output 6", 51 NC "No Connect", 52 VSSQ (power) "DQ Ground", 53 DQ7 (io) "Data Input/Output 7", 54 VSS (power) "Ground"

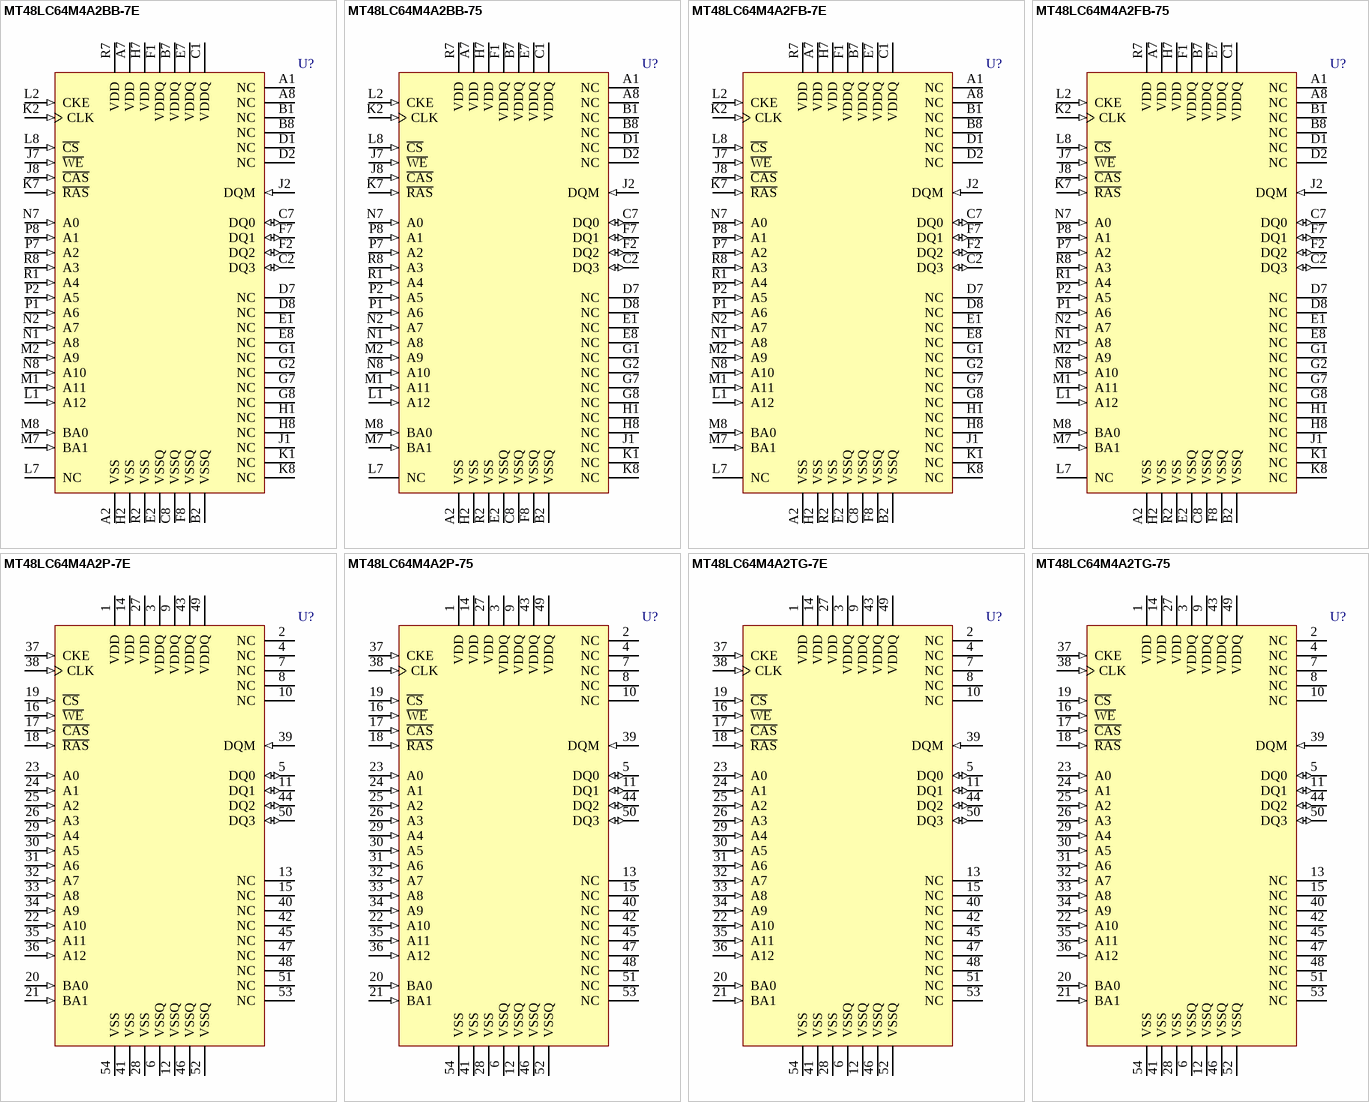
[diagram p4: symbols MT48LC64M4A2BB-7E to MT48LC64M4A2TG-75]

## MT48LC64M4A2BB-7E
designator U?
256Mb Synchronous High-Speed CMOS DRAM, 64Mb x 4Bit x 4 Banks, 60-Ball FPGA Pb-free, Commercial; CycleTime: 7.5ns @ CL = 2 (PC133); RowAddress: 8K (A0-A12); ColumnAddress: 2K (A0-A9, A11); PCB_Layout: Manufacturer recommends pad size of 0.33mm ± 0.025mm.; Published: 11-Oct-2004; LatestRevisionDate: 13-Apr-2006; LatestRevisionNote: IPC-7351 Footprint Added.; DatasheetVersion: RevL, Oct-2007; PackageVersion: Sep-2003; PackageReference: FB; Publisher: Altium Limited; PackageDescription: 60-Ball Ball Grid Array Rectangular 0.8 mm Pitch (FB); ComponentLink1Description: Manufacturer Link; ComponentLink1URL: http://www.micron.com; ComponentLink2Description: Datasheet; ComponentLink2URL: http://download.micron.com/pdf/datasheets/dram/sdram/256MSDRAM.pdf
footprint FB (BGA, 60-Leads, Body 16x8mm, Pitch 0.8mm)
pins: A1 NC "No Connect", A2 VSS (power) "Ground", A7 VDD (power) "Power Supply", A8 NC "No Connect", B1 NC "No Connect", B2 VSSQ (power) "DQ Ground", B7 VDDQ (power) "DQ Power", B8 NC "No Connect", C1 VDDQ (power) "DQ Power", C2 DQ3 (io) "Data Input/Output 3", C7 DQ0 (io) "Data Input/Output 0", C8 VSSQ (power) "DQ Ground", D1 NC "No Connect", D2 NC "No Connect", D7 NC "No Connect", D8 NC "No Connect", E1 NC "No Connect", E2 VSSQ (power) "DQ Ground", E7 VDDQ (power) "DQ Power", E8 NC "No Connect", F1 VDDQ (power) "DQ Power", F2 DQ2 (io) "Data Input/Output 2", F7 DQ1 (io) "Data Input/Output 1", F8 VSSQ (power) "DQ Ground", G1 NC "No Connect", G2 NC "No Connect", G7 NC "No Connect", G8 NC "No Connect", H1 NC "No Connect", H2 VSS (power) "Ground", H7 VDD (power) "Power Supply", H8 NC "No Connect", J1 NC "No Connect", J2 DQM (in) "Input/Output Mask", J7 ~{WE} (in) "Command Input", J8 ~{CAS} (in) "Command Input", K1 NC "No Connect", K2 CLK (in) "Clock", K7 ~{RAS} (in) "Command Input", K8 NC "No Connect", L1 A12 (in) "Address Input 12", L2 CKE (in) "Clock Enable", L7 NC "No Connect", L8 ~{CS} (in) "Chip Select", M1 A11 (in) "Address Input 11", M2 A9 (in) "Address Input 9", M7 BA1 (in) "Bank Address Input 1", M8 BA0 (in) "Bank Address Input 0", N1 A8 (in) "Address Input 8", N2 A7 (in) "Address Input 7", N7 A0 (in) "Address Input 0", N8 A10 (in) "Address Input 10", P1 A6 (in) "Address Input 6", P2 A5 (in) "Address Input 5", P7 A2 (in) "Address Input 2", P8 A1 (in) "Address Input 1", R1 A4 (in) "Address Input 4", R2 VSS (power) "Ground", R7 VDD (power) "Power Supply", R8 A3 (in) "Address Input 3"

## MT48LC64M4A2BB-75
designator U?
256Mb Synchronous High-Speed CMOS DRAM, 64Mb x 4Bit x 4 Banks, 60-Ball FPGA Pb-free, Commercial; CycleTime: 7.5ns @ CL = 3 (PC133); RowAddress: 8K (A0-A12); ColumnAddress: 2K (A0-A9, A11); PCB_Layout: Manufacturer recommends pad size of 0.33mm ± 0.025mm.; Published: 11-Oct-2004; LatestRevisionDate: 13-Apr-2006; LatestRevisionNote: IPC-7351 Footprint Added.; DatasheetVersion: RevL, Oct-2007; PackageVersion: Sep-2003; PackageReference: FB; Publisher: Altium Limited; PackageDescription: 60-Ball Ball Grid Array Rectangular 0.8 mm Pitch (FB); ComponentLink1Description: Manufacturer Link; ComponentLink1URL: http://www.micron.com; ComponentLink2Description: Datasheet; ComponentLink2URL: http://download.micron.com/pdf/datasheets/dram/sdram/256MSDRAM.pdf
footprint FB (BGA, 60-Leads, Body 16x8mm, Pitch 0.8mm)
pins: A1 NC "No Connect", A2 VSS (power) "Ground", A7 VDD (power) "Power Supply", A8 NC "No Connect", B1 NC "No Connect", B2 VSSQ (power) "DQ Ground", B7 VDDQ (power) "DQ Power", B8 NC "No Connect", C1 VDDQ (power) "DQ Power", C2 DQ3 (io) "Data Input/Output 3", C7 DQ0 (io) "Data Input/Output 0", C8 VSSQ (power) "DQ Ground", D1 NC "No Connect", D2 NC "No Connect", D7 NC "No Connect", D8 NC "No Connect", E1 NC "No Connect", E2 VSSQ (power) "DQ Ground", E7 VDDQ (power) "DQ Power", E8 NC "No Connect", F1 VDDQ (power) "DQ Power", F2 DQ2 (io) "Data Input/Output 2", F7 DQ1 (io) "Data Input/Output 1", F8 VSSQ (power) "DQ Ground", G1 NC "No Connect", G2 NC "No Connect", G7 NC "No Connect", G8 NC "No Connect", H1 NC "No Connect", H2 VSS (power) "Ground", H7 VDD (power) "Power Supply", H8 NC "No Connect", J1 NC "No Connect", J2 DQM (in) "Input/Output Mask", J7 ~{WE} (in) "Command Input", J8 ~{CAS} (in) "Command Input", K1 NC "No Connect", K2 CLK (in) "Clock", K7 ~{RAS} (in) "Command Input", K8 NC "No Connect", L1 A12 (in) "Address Input 12", L2 CKE (in) "Clock Enable", L7 NC "No Connect", L8 ~{CS} (in) "Chip Select", M1 A11 (in) "Address Input 11", M2 A9 (in) "Address Input 9", M7 BA1 (in) "Bank Address Input 1", M8 BA0 (in) "Bank Address Input 0", N1 A8 (in) "Address Input 8", N2 A7 (in) "Address Input 7", N7 A0 (in) "Address Input 0", N8 A10 (in) "Address Input 10", P1 A6 (in) "Address Input 6", P2 A5 (in) "Address Input 5", P7 A2 (in) "Address Input 2", P8 A1 (in) "Address Input 1", R1 A4 (in) "Address Input 4", R2 VSS (power) "Ground", R7 VDD (power) "Power Supply", R8 A3 (in) "Address Input 3"

## MT48LC64M4A2FB-7E
designator U?
256Mb Synchronous High-Speed CMOS DRAM, 64Mb x 4Bit x 4 Banks, 60-Ball FPGA, Commercial; CycleTime: 7.5ns @ CL = 2 (PC133); RowAddress: 8K (A0-A12); ColumnAddress: 2K (A0-A9, A11); PCB_Layout: Manufacturer recommends pad size of 0.33mm ± 0.025mm.; Published: 11-Oct-2004; LatestRevisionDate: 13-Apr-2006; LatestRevisionNote: IPC-7351 Footprint Added.; DatasheetVersion: RevL, Oct-2007; PackageVersion: Sep-2003; PackageReference: FB; Publisher: Altium Limited; PackageDescription: 60-Ball Ball Grid Array Rectangular 0.8 mm Pitch (FB); ComponentLink1Description: Manufacturer Link; ComponentLink1URL: http://www.micron.com; ComponentLink2Description: Datasheet; ComponentLink2URL: http://download.micron.com/pdf/datasheets/dram/sdram/256MSDRAM.pdf
footprint FB (BGA, 60-Leads, Body 16x8mm, Pitch 0.8mm)
pins: A1 NC "No Connect", A2 VSS (power) "Ground", A7 VDD (power) "Power Supply", A8 NC "No Connect", B1 NC "No Connect", B2 VSSQ (power) "DQ Ground", B7 VDDQ (power) "DQ Power", B8 NC "No Connect", C1 VDDQ (power) "DQ Power", C2 DQ3 (io) "Data Input/Output 3", C7 DQ0 (io) "Data Input/Output 0", C8 VSSQ (power) "DQ Ground", D1 NC "No Connect", D2 NC "No Connect", D7 NC "No Connect", D8 NC "No Connect", E1 NC "No Connect", E2 VSSQ (power) "DQ Ground", E7 VDDQ (power) "DQ Power", E8 NC "No Connect", F1 VDDQ (power) "DQ Power", F2 DQ2 (io) "Data Input/Output 2", F7 DQ1 (io) "Data Input/Output 1", F8 VSSQ (power) "DQ Ground", G1 NC "No Connect", G2 NC "No Connect", G7 NC "No Connect", G8 NC "No Connect", H1 NC "No Connect", H2 VSS (power) "Ground", H7 VDD (power) "Power Supply", H8 NC "No Connect", J1 NC "No Connect", J2 DQM (in) "Input/Output Mask", J7 ~{WE} (in) "Command Input", J8 ~{CAS} (in) "Command Input", K1 NC "No Connect", K2 CLK (in) "Clock", K7 ~{RAS} (in) "Command Input", K8 NC "No Connect", L1 A12 (in) "Address Input 12", L2 CKE (in) "Clock Enable", L7 NC "No Connect", L8 ~{CS} (in) "Chip Select", M1 A11 (in) "Address Input 11", M2 A9 (in) "Address Input 9", M7 BA1 (in) "Bank Address Input 1", M8 BA0 (in) "Bank Address Input 0", N1 A8 (in) "Address Input 8", N2 A7 (in) "Address Input 7", N7 A0 (in) "Address Input 0", N8 A10 (in) "Address Input 10", P1 A6 (in) "Address Input 6", P2 A5 (in) "Address Input 5", P7 A2 (in) "Address Input 2", P8 A1 (in) "Address Input 1", R1 A4 (in) "Address Input 4", R2 VSS (power) "Ground", R7 VDD (power) "Power Supply", R8 A3 (in) "Address Input 3"

## MT48LC64M4A2FB-75
designator U?
256Mb Synchronous High-Speed CMOS DRAM, 64Mb x 4Bit x 4 Banks, 60-Ball FPGA, Commercial; CycleTime: 7.5ns @ CL = 3 (PC133); RowAddress: 8K (A0-A12); ColumnAddress: 2K (A0-A9, A11); PCB_Layout: Manufacturer recommends pad size of 0.33mm ± 0.025mm.; Published: 11-Oct-2004; LatestRevisionDate: 13-Apr-2006; LatestRevisionNote: IPC-7351 Footprint Added.; DatasheetVersion: RevL, Oct-2007; PackageVersion: Sep-2003; PackageReference: FB; Publisher: Altium Limited; PackageDescription: 60-Ball Ball Grid Array Rectangular 0.8 mm Pitch (FB); ComponentLink1Description: Manufacturer Link; ComponentLink1URL: http://www.micron.com; ComponentLink2Description: Datasheet; ComponentLink2URL: http://download.micron.com/pdf/datasheets/dram/sdram/256MSDRAM.pdf
footprint FB (BGA, 60-Leads, Body 16x8mm, Pitch 0.8mm)
pins: A1 NC "No Connect", A2 VSS (power) "Ground", A7 VDD (power) "Power Supply", A8 NC "No Connect", B1 NC "No Connect", B2 VSSQ (power) "DQ Ground", B7 VDDQ (power) "DQ Power", B8 NC "No Connect", C1 VDDQ (power) "DQ Power", C2 DQ3 (io) "Data Input/Output 3", C7 DQ0 (io) "Data Input/Output 0", C8 VSSQ (power) "DQ Ground", D1 NC "No Connect", D2 NC "No Connect", D7 NC "No Connect", D8 NC "No Connect", E1 NC "No Connect", E2 VSSQ (power) "DQ Ground", E7 VDDQ (power) "DQ Power", E8 NC "No Connect", F1 VDDQ (power) "DQ Power", F2 DQ2 (io) "Data Input/Output 2", F7 DQ1 (io) "Data Input/Output 1", F8 VSSQ (power) "DQ Ground", G1 NC "No Connect", G2 NC "No Connect", G7 NC "No Connect", G8 NC "No Connect", H1 NC "No Connect", H2 VSS (power) "Ground", H7 VDD (power) "Power Supply", H8 NC "No Connect", J1 NC "No Connect", J2 DQM (in) "Input/Output Mask", J7 ~{WE} (in) "Command Input", J8 ~{CAS} (in) "Command Input", K1 NC "No Connect", K2 CLK (in) "Clock", K7 ~{RAS} (in) "Command Input", K8 NC "No Connect", L1 A12 (in) "Address Input 12", L2 CKE (in) "Clock Enable", L7 NC "No Connect", L8 ~{CS} (in) "Chip Select", M1 A11 (in) "Address Input 11", M2 A9 (in) "Address Input 9", M7 BA1 (in) "Bank Address Input 1", M8 BA0 (in) "Bank Address Input 0", N1 A8 (in) "Address Input 8", N2 A7 (in) "Address Input 7", N7 A0 (in) "Address Input 0", N8 A10 (in) "Address Input 10", P1 A6 (in) "Address Input 6", P2 A5 (in) "Address Input 5", P7 A2 (in) "Address Input 2", P8 A1 (in) "Address Input 1", R1 A4 (in) "Address Input 4", R2 VSS (power) "Ground", R7 VDD (power) "Power Supply", R8 A3 (in) "Address Input 3"

## MT48LC64M4A2P-7E
designator U?
256Mb Synchronous High-Speed CMOS DRAM, 64Mb x 4Bit x 4 Banks, 54-Pin TSOP Pb-free, Commercial; CycleTime: 7.5ns @ CL = 2 (PC133); RowAddress: 8K (A0-A12); ColumnAddress: 2K (A0-A9, A11); Published: 11-Oct-2004; LatestRevisionDate: 13-Apr-2006; LatestRevisionNote: IPC-7351 Footprint Added.; DatasheetVersion: RevL, Oct-2007; PackageVersion: Sep-2003; PackageReference: TSOP2-54; Publisher: Altium Limited; PackageDescription: 54-Pin Plastic Small Outline Package 0.8 mm Pitch; Code_JEDEC: MS-024-FA; ComponentLink1Description: Manufacturer Link; ComponentLink1URL: http://www.micron.com; ComponentLink2Description: Datasheet; ComponentLink2URL: http://download.micron.com/pdf/datasheets/dram/sdram/256MSDRAM.pdf
footprint TSOP2-54_N (SOP, 54-Leads, Body 22.2x10.16mm, Pitch 0.8mm, IPC Medium Density)
footprint TSOP2-54_L (SOP, 54-Leads, Body 22.2x10.16mm, Pitch 0.8mm, IPC High Density)
footprint TSOP2-54_M (SOP, 54-Leads, Body 22.2x10.16mm, Pitch 0.8mm, IPC Low Density)
pins: 1 VDD (power) "Power Supply", 2 NC "No Connect", 3 VDDQ (power) "DQ Power", 4 NC "No Connect", 5 DQ0 (io) "Data Input/Output 0", 6 VSSQ (power) "DQ Ground", 7 NC "No Connect", 8 NC "No Connect", 9 VDDQ (power) "DQ Power", 10 NC "No Connect", 11 DQ1 (io) "Data Input/Output 1", 12 VSSQ (power) "DQ Ground", 13 NC "No Connect", 14 VDD (power) "Power Supply", 15 NC "No Connect", 16 ~{WE} (in) "Command Input", 17 ~{CAS} (in) "Command Input", 18 ~{RAS} (in) "Command Input", 19 ~{CS} (in) "Chip Select", 20 BA0 (in) "Bank Address Input 0", 21 BA1 (in) "Bank Address Input 1", 22 A10 (in) "Address Input 10", 23 A0 (in) "Address Input 0", 24 A1 (in) "Address Input 1", 25 A2 (in) "Address Input 2", 26 A3 (in) "Address Input 3", 27 VDD (power) "Power Supply", 28 VSS (power) "Ground", 29 A4 (in) "Address Input 4", 30 A5 (in) "Address Input 5", 31 A6 (in) "Address Input 6", 32 A7 (in) "Address Input 7", 33 A8 (in) "Address Input 8", 34 A9 (in) "Address Input 9", 35 A11 (in) "Address Input 11", 36 A12 (in) "Address Input 12", 37 CKE (in) "Clock Enable", 38 CLK (in) "Clock", 39 DQM (in) "Input/Output Mask", 40 NC "No Connect", 41 VSS (power) "Ground", 42 NC "No Connect", 43 VDDQ (power) "DQ Power", 44 DQ2 (io) "Data Input/Output 2", 45 NC "No Connect", 46 VSSQ (power) "DQ Ground", 47 NC "No Connect", 48 NC "No Connect", 49 VDDQ (power) "DQ Power", 50 DQ3 (io) "Data Input/Output 3", 51 NC "No Connect", 52 VSSQ (power) "DQ Ground", 53 NC "No Connect", 54 VSS (power) "Ground"